# Altium footprint library Activity_Recognition_Board_v1.0_PCB.PcbLib: 26 footprints (part 1 of 2)
Each footprint in its own frame and in the unit in brackets; x right, y up, seen from the top. Pads: shape width x height; smd on the part's side, far side on the other; paste and mask are expansions set on the pad; w line width, h text height; cw(c..) or ccw(c..) is an arc to the next point about the centre after c.
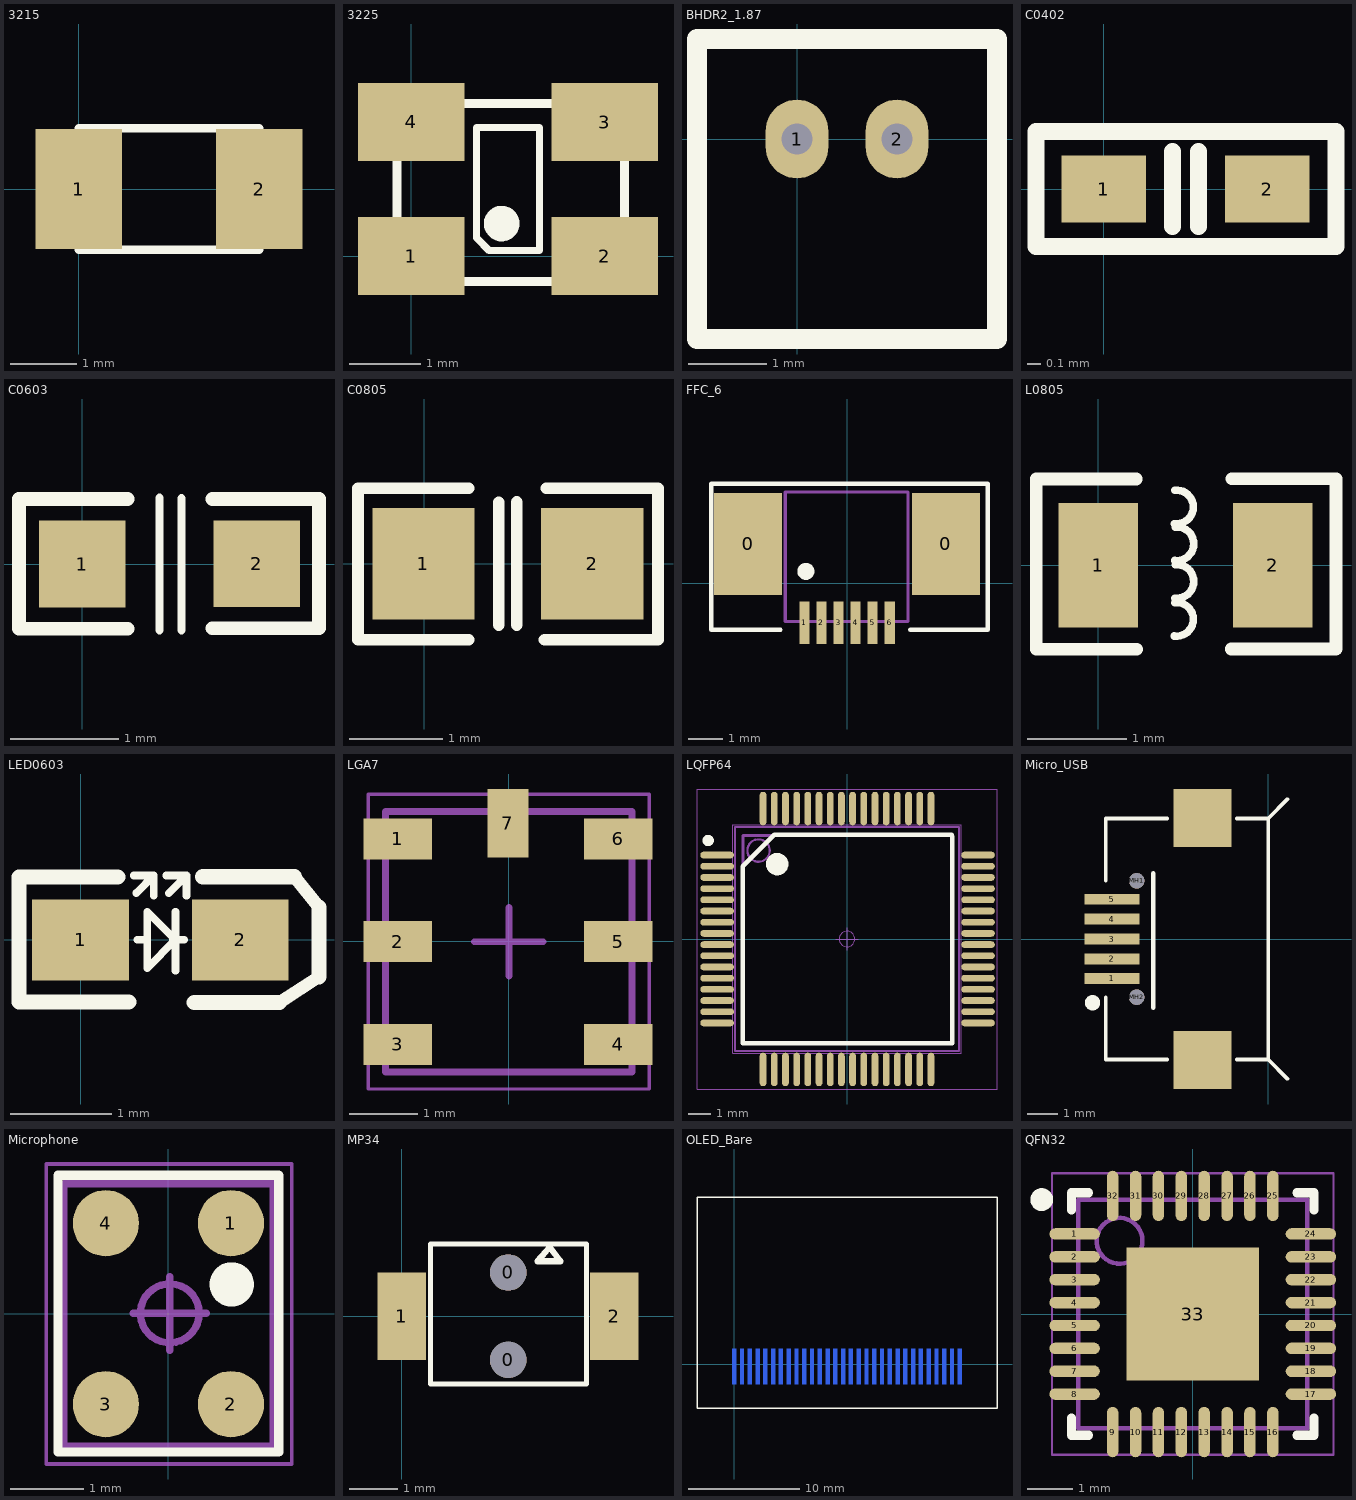
[diagram p0: the footprints below, top view; thin cyan lines are the x and y axes]

## 3215 [mm]
pads (2):
  rect 1.3x1.8 smd paste+0 mask+0.1: 1(0,0)
  rect 1.3x1.8 smd: 2(2.716,0)
Top Overlay:
  circle w0.25: c0.356,-0.559 r0.125
  lines w0.127: 0,-0.914 0,0.914 2.716,0.914 2.716,-0.914 0,-0.914
3D body: height 0.9, standoff 0.02, extent 0,-0.914 2.716,0.914

## 3225 [mm]
pads (4):
  rect 1.5x1.1 smd paste+0 mask+0.1: 1(0,0)
  rect 1.5x1.1 smd: 2(2.716,0) 3(2.716,1.885)
  rect 1.5x1.1 smd mask+0.1: 4(0,1.886)
Top Overlay:
  circle w0.25: c1.27,0.457 r0.125
  lines w0.1: 0.914,0.257 1.095,0.076 1.803,0.076 1.803,1.807 0.914,1.807 0.914,0.257
  lines w0.127: -0.203,-0.356 -0.203,2.144 2.997,2.144 2.997,-0.356 -0.203,-0.356
3D body: height 0.9, standoff 0.02, extent 0,-0.279 2.794,2.159

## BHDR2_1.87 [mm]
pads (2):
  oval 0.8x1 hole 0.4: 1(0,0) 2(1.27,0)
Top Overlay:
  lines w0.254: -1.27,-2.54 -1.27,1.27 2.54,1.27 2.54,-2.54 -1.27,-2.54
3D body: height 0.8, standoff 0.05, extent -1.27,-2.54 2.54,1.27

## C0402 [mm]
pads (2):
  rect 0.635x0.5 smd: 1(0,0) 2(1.224,0)
Top Overlay:
  lines w0.127: 0.516,-0.279 0.516,0.279 ; 0.711,-0.279 0.711,0.279 ; -0.508,-0.429 1.74,-0.429 1.74,0.429 -0.508,0.429 -0.508,-0.429
3D body: height 0.8, standoff 0.05, extent 0.013,-0.262 1.224,0.267

## C0603 [mm]
pads (2):
  rect 0.8x0.8 smd: 1(0,0) 2(1.61,0.004)
Top Overlay:
  lines w0.076: 0.713,-0.61 0.712,0.61 ; 0.915,0.607 0.916,-0.61
  lines w0.127: 0.419,-0.597 -0.584,-0.597 -0.584,0.6 0.419,0.6 ; 1.198,-0.593 2.184,-0.593 2.184,0.601 1.198,0.601
3D body: height 0.9, standoff 0.02, extent 0,-0.399 1.61,0.414

## C0805 [mm]
pads (2):
  rect 1.1x1.2 smd: 1(-0.008,0) 2(1.808,0)
Top Overlay:
  lines w0.127: 0.48,-0.815 -0.711,-0.815 -0.711,0.813 0.48,0.813 ; 0.803,-0.658 0.803,0.663 ; 0.996,-0.658 0.996,0.665 ; 1.293,-0.815 2.515,-0.815 2.515,0.813 1.313,0.813
3D body: height 0.8, standoff 0.05, extent -0.046,-0.602 1.808,0.607

## FFC_6 [mm]
pads (8):
  rect 2x3 smd: 0(-2.902,1.158) 0(2.902,1.158)
  rect 0.3x1.25 smd: 1(-1.248,-1.158) 2(-0.748,-1.158) 3(-0.248,-1.158) 4(0.252,-1.158) 5(0.752,-1.158) 6(1.252,-1.158)
Top Overlay:
  circle w0.25: c-1.208,0.352 r0.125
  lines w0.127: -1.953,-1.361 -3.985,-1.361 -3.985,1.902 -3.985,2.918 4.102,2.918 ; 1.857,-1.361 4.132,-1.361 4.132,2.918
Mechanical 13:
  lines w0.1: -1.81,-1.12 1.79,-1.12 1.79,2.68 -1.81,2.68 -1.81,-1.12
3D body: height 1, standoff 0.86, extent -1.81,-1.12 1.79,2.68

## L0805 [mm]
pads (2):
  rect 0.8x1.25 smd: 1(0,0) 2(1.755,0)
Top Overlay:
  lines w0.076: 0.766,-0.712 ccw(c0.787,-0.544) 0.77,-0.376 ; 0.766,0.417 ccw(c0.787,0.585) 0.77,0.753 ; 0.77,-0.331 ccw(c0.791,-0.163) 0.774,0.005 ; 0.77,0.047 ccw(c0.791,0.215) 0.774,0.383
  lines w0.127: 0.384,0.866 -0.622,0.866 -0.622,-0.846 0.389,-0.846 ; 1.336,-0.843 2.39,-0.843 2.39,0.869 2.352,0.869 1.344,0.869
3D body: height 0.9, standoff 0.02, extent 0.02,-0.62 1.755,0.648

## LED0603 [mm]
pads (2):
  rect 0.96x0.8 smd: 1(0,0) 2(1.582,0)
Top Overlay:
  lines w0.076: 0.526,0.638 0.726,0.638 ; 0.553,0.464 0.726,0.638 ; 0.561,0 0.66,0 ; 0.726,0.438 0.726,0.638 ; 0.849,0.637 1.049,0.637 ; 0.875,0.463 1.049,0.637 ; 0.914,0 1.026,0 ; 0.94,-0.305 0.94,0.279 ; 1.049,0.437 1.049,0.637 ; 0.66,-0.279 0.66,0.279 0.94,0 0.66,-0.279
  lines w0.127: 1.97,-0.62 2.362,-0.365 ; 2.12,0.625 2.362,0.323
  lines w0.152: 0.368,0.622 -0.61,0.622 -0.61,-0.615 0.478,-0.615 ; 1.125,-0.62 1.97,-0.62 ; 1.209,0.625 2.12,0.625 ; 2.362,-0.365 2.362,0.323
3D body: height 0.8, standoff 0.05, extent -0.038,-0.394 1.61,0.404

## LGA7 [mm] "LGA, 7-Leads, Body 3.60x3.80mmx1.00mm, Pitch 1.50mm"
height 1
pads (7):
  rect 1x0.6 smd: 1(-1.623,1.497) 2(-1.623,-0.003) 3(-1.623,-1.503) 4(1.603,-1.503) 5(1.603,-0.003) 6(1.603,1.497)
  rect 0.6x1 smd: 7(-0.01,1.726)
Mechanical 13:
  lines w0.1: -1.797,-1.903 -1.797,1.897 1.803,1.897 1.803,-1.903 -1.797,-1.903
Mechanical 15:
  lines w0.05: -2.047,-2.153 -2.047,2.147 2.053,2.147 2.053,-2.153 -2.047,-2.153
  lines w0.1: -0.497,-0.003 0.503,-0.003 ; 0.003,-0.503 0.003,0.497
3D body: height 1, standoff 0.86, extent -1.797,-1.903 1.803,1.897

## LQFP64 [mm] "LQFP64"
pads (64):
  oval 1.5x0.3 smd: 1(-5.802,3.75) 2(-5.802,3.25) 3(-5.802,2.75) 4(-5.802,2.25) 5(-5.802,1.75) 6(-5.802,1.25) 7(-5.802,0.75) 8(-5.802,0.25) 9(-5.802,-0.25) 10(-5.802,-0.75) 11(-5.802,-1.25) 12(-5.802,-1.75) 13(-5.802,-2.25) 14(-5.802,-2.75) 15(-5.802,-3.25) 16(-5.802,-3.75) 33(5.852,-3.75) 34(5.852,-3.25) 35(5.852,-2.75) 36(5.852,-2.25) 37(5.852,-1.75) 38(5.852,-1.25) 39(5.852,-0.75) 40(5.852,-0.25) 41(5.852,0.25) 42(5.852,0.75) 43(5.852,1.25) 44(5.852,1.75) 45(5.852,2.25) 46(5.852,2.75) 47(5.852,3.25) 48(5.852,3.75)
  oval 0.3x1.5 smd: 17(-3.75,-5.827) 18(-3.25,-5.827) 19(-2.75,-5.827) 20(-2.25,-5.827) 21(-1.75,-5.827) 22(-1.25,-5.827) 23(-0.75,-5.827) 24(-0.25,-5.827) 25(0.25,-5.827) 26(0.75,-5.827) 27(1.25,-5.827) 28(1.75,-5.827) 29(2.25,-5.827) 30(2.75,-5.827) 31(3.25,-5.827) 32(3.75,-5.827) 49(3.75,5.827) 50(3.25,5.827) 51(2.75,5.827) 52(2.25,5.827) 53(1.75,5.827) 54(1.25,5.827) 55(0.75,5.827) 56(0.25,5.827) 57(-0.25,5.827) 58(-0.75,5.827) 59(-1.25,5.827) 60(-1.75,5.827) 61(-2.25,5.827) 62(-2.75,5.827) 63(-3.25,5.827) 64(-3.75,5.827)
Top Overlay:
  circle w0.25: c-6.2,4.4 r0.125
  circle w0.5: c-3.116,3.344 r0.25
  lines w0.2: 4.679,4.651 -3.249,4.651 -4.651,3.249 -4.651,-4.651 4.702,-4.651 ; 4.702,-4.6 4.702,4.6
Mechanical 13:
  lines w0.127: -4.651,-4.651 -4.651,4.623 4.679,4.623 4.702,4.6 4.702,-4.651 -4.651,-4.651
Mechanical 15:
  circle w0.1: c-3.95,3.95 r0.5
  lines w0.1: -5,-5 5,-5 5,5 -5,5 -5,-5
Mechanical 16:
  circle w0.05: c0,0 r0.35
  lines w0.001: -5.1,-5.1 5.1,-5.1 5.1,5.1 -5.1,5.1 -5.1,-5.1
  lines w0.05: -0.5,0 0.5,0 ; 0,-0.5 0,0.5 ; -6.7,-6.7 6.7,-6.7 6.7,6.7 -6.7,6.7 -6.7,-6.7
3D body: height 0.9, standoff 0.02, extent -4.674,-4.648 4.699,4.651

## Micro_USB [mm]
pads (9):
  rect 1.8x0.35 smd: 1(-5.106,-1.287) 2(-5.106,-0.65) 3(-5.106,0) 4(-5.106,0.65) 5(-5.106,1.3)
  round 0.508 hole 0.508 unplated: MH1(-4.3,1.9) MH2(-4.3,-1.9)
  rect 1.9x1.9 smd: ""(-2.15,-3.95) ""(-2.15,3.95)
Top Overlay:
  circle w0.25: c-5.74,-2.083 r0.125
  lines w0.127: -5.309,-1.905 -5.309,-3.937 -3.302,-3.937 ; -5.309,1.905 -5.309,3.937 -3.302,3.937 ; -1.016,-3.937 0,-3.937 0.63,-4.567 ; -1.016,3.937 0,3.937 0.63,4.567 ; 0,-3.9 0,3.9
  lines w0.152: -3.759,-2.251 -3.759,2.149
3D body: height 0.9, standoff 0.02, extent -5.189,-3.79 -0.163,3.79

## Microphone [mm]
pads (4):
  round 0.9 smd: 1(0.85,1.23) 2(0.85,-1.23) 3(-0.85,-1.23) 4(-0.85,1.23)
Top Overlay:
  circle w0.5: c0.86,0.398 r0.05
  lines w0.127: -1.5,-1.88 -1.5,1.88 1.5,1.88 1.5,-1.88 -1.5,-1.88
Mechanical 13:
  circle w0.1: c0.018,0.005 r0.4
  lines w0.1: -1.425,-1.803 -1.425,1.768 1.422,1.768 1.422,-1.803 -1.425,-1.803
Mechanical 15:
  lines w0.05: -1.66,-2.043 -1.66,2.034 1.675,2.034 1.675,-2.043 -1.66,-2.043
  lines w0.1: -0.482,0.005 0.518,0.005 ; 0.018,-0.495 0.018,0.505
3D body: height 0.8, standoff 0.05, extent -1.438,-1.826 1.417,1.781

## MP34 [mm]
pads (4):
  round 0.75 hole 0.75: 0(2.195,-0.9) 0(2.195,0.9)
  rect 1x1.8 smd: 1(0,0) 2(4.38,0)
Top Overlay:
  lines w0.1: 0.595,-1.397 0.595,1.487 3.81,1.487 3.81,-1.397 0.595,-1.397
  lines w0.127: 2.8,1.132 3.275,1.132 3.048,1.422 2.8,1.132
3D body: height 0.9, standoff 0.02, extent 0.595,-1.41 3.81,1.41

## OLED_Bare [mm]
pads (30):
  rect 0.35x3.2 smd far side: 1(0,-0.229) 2(0.7,-0.229) 3(1.4,-0.229) 4(2.1,-0.229) 5(2.8,-0.229) 6(3.5,-0.229) 7(4.2,-0.229) 8(4.9,-0.229) 9(5.6,-0.229) 10(6.3,-0.229) 11(7,-0.229) 12(7.7,-0.229) 13(8.4,-0.229) 14(9.1,-0.229) 15(9.8,-0.229) 16(10.5,-0.229) 17(11.2,-0.229) 18(11.9,-0.229) 19(12.6,-0.229) 20(13.3,-0.229) 21(14,-0.229) 22(14.7,-0.229) 23(15.4,-0.229) 24(16.1,-0.229) 25(16.8,-0.229) 26(17.5,-0.229) 27(18.2,-0.229) 28(18.9,-0.229) 29(19.6,-0.229) 30(20.3,-0.229)
Top Overlay:
  lines w0.127: -3.35,-4 23.65,-4 23.65,15 -3.35,15 -3.35,-4
Bottom Overlay:
  circle w1: c-1.753,-0.381 r0.137
  lines w0.127: -0.85,-4 1.15,-6 19.15,-6 21.15,-4 21.15,0 -0.85,0 -0.85,-4
3D body: height 0.9, standoff 0.02, extent -3.183,-3.838 23.487,14.849

## QFN32 [mm] "QFN, 32-Leads, Body 5.00x5.00mm, Pitch 0.50mm, Thermal Pad 2.90x2.90mm, IPC Medium Density"
height 1
pads (33):
  oval 1.1x0.25 smd: 1(-2.58,1.75) 2(-2.58,1.25) 3(-2.58,0.75) 4(-2.58,0.25) 5(-2.58,-0.25) 6(-2.58,-0.75) 7(-2.58,-1.25) 8(-2.58,-1.75) 17(2.58,-1.75) 18(2.58,-1.25) 19(2.58,-0.75) 20(2.58,-0.25) 21(2.58,0.25) 22(2.58,0.75) 23(2.58,1.25) 24(2.58,1.75)
  oval 0.25x1.1 smd: 9(-1.75,-2.58) 10(-1.25,-2.58) 11(-0.75,-2.58) 12(-0.25,-2.58) 13(0.25,-2.58) 14(0.75,-2.58) 15(1.25,-2.58) 16(1.75,-2.58) 25(1.75,2.581) 26(1.25,2.581) 27(0.75,2.581) 28(0.25,2.581) 29(-0.25,2.581) 30(-0.75,2.581) 31(-1.25,2.581) 32(-1.75,2.581)
  rect 2.9x2.9 smd: 33(0,0)
Top Overlay:
  circle w0.25: c-3.3,2.5 r0.125
  lines w0.2: -2.65,-2.275 -2.65,-2.65 -2.275,-2.65 ; -2.65,2.275 -2.65,2.65 -2.275,2.65 ; 2.275,-2.65 2.65,-2.65 2.65,-2.275 ; 2.275,2.65 2.65,2.65 2.65,2.275
Mechanical 13:
  circle w0.1: c-1.6,1.6 r0.5
  lines w0.1: -2.5,-2.5 2.5,-2.5 2.5,2.5 -2.5,2.5 -2.5,-2.5
Mechanical 15:
  lines w0.05: -3.075,-3.075 3.075,-3.075 3.075,3.075 -3.075,3.075 -3.075,-3.075
  lines w0.1: -0.5,0 0.5,0 ; 0,-0.5 0,0.5
3D body: height 1, standoff 0.8, extent -2.5,-2.5 2.5,2.5